# Altium footprint library PCB - RESISTOR - CHIP - RES 2512_6432.PCBLIB: 1 footprints
Each footprint in its own frame and in the unit in brackets; x right, y up, seen from the top. Pads: shape width x height; smd on the part's side, far side on the other; paste and mask are expansions set on the pad; w line width, h text height; cw(c..) or ccw(c..) is an arc to the next point about the centre after c.
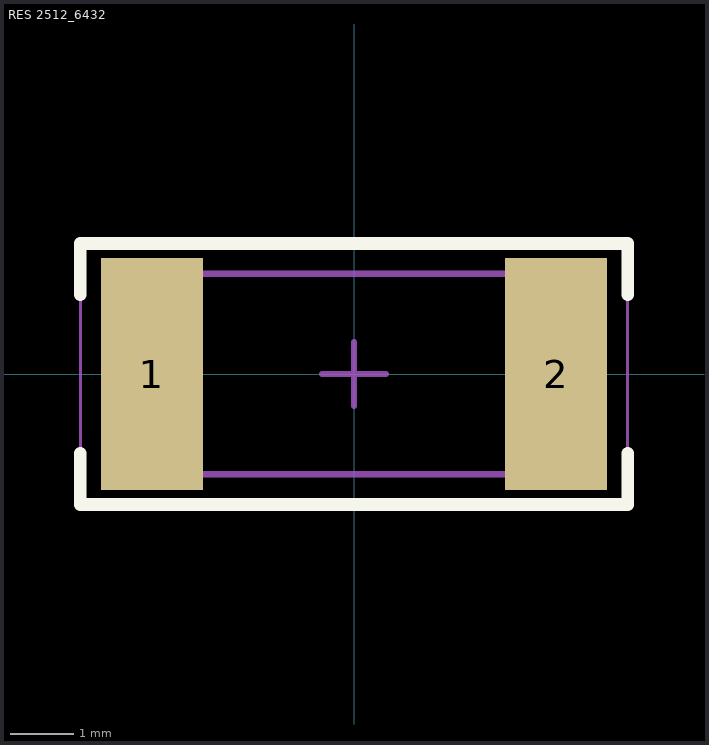
[diagram p0: the footprint, top view; thin cyan lines are the x and y axes]

## RES 2512_6432 [mm] "Chip Resistor, 2-Leads, Body 6.30x3.15mm, IPC Medium Density"
height 0.6
pads (2):
  rect 1.6x3.65 smd: 1(-3.175,0) 2(3.175,0)
Top Overlay:
  lines w0.2: -4.3,-1.25 -4.3,-2.05 4.3,-2.05 4.3,-1.25 ; -4.3,1.25 -4.3,2.05 4.3,2.05 4.3,1.25
Mechanical 13:
  lines w0.1: -3.149,-1.575 -3.149,1.575 3.15,1.575 3.15,1.225 3.15,-1.575 -3.149,-1.575
Mechanical 15:
  lines w0.05: -4.3,-2.1 -4.3,2.1 4.3,2.1 4.3,-2.1 -4.3,-2.1
  lines w0.1: -0.5,0 0.5,0 ; 0,-0.5 0,0.5
3D body "RES - 2512.step": height 0.7, standoff 0, extent -3.15,-1.575 3.15,1.575